# EAGLE library part PBX89 (library paper_tape)
PBX89 - 9 Photodiode Array
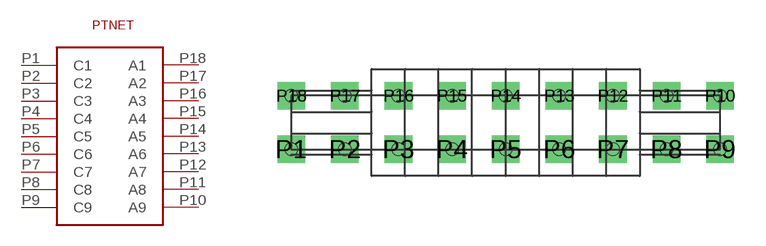
[diagram p0: symbol with the pads of DIP18N; footprint DIP18N]

Designator prefix PTNET

## PBX89  [DIP18N]
P1  C1
P2  C2
P3  C3
P4  C4
P5  C5
P6  C6
P7  C7
P8  C8
P9  C9
P10  A9
P11  A8
P12  A7
P13  A6
P14  A5
P15  A4
P16  A3
P17  A2
P18  A1

## Footprint DIP18N (pad centres in mm)
Narrow DIP18
drill 0.8 square: P1 -10.16,-1.27; P2 -7.62,-1.27; P3 -5.08,-1.27; P4 -2.54,-1.27; P5 0,-1.27; P6 2.54,-1.27; P7 5.08,-1.27; P8 7.62,-1.27; P9 10.16,-1.27; P10 10.16,1.27; P11 7.62,1.27; P12 5.08,1.27; P13 2.54,1.27; P14 0,1.27; P15 -2.54,1.27; P16 -5.08,1.27; P17 -7.62,1.27; P18 -10.16,1.27
hole 0.6 at 0,1.27
hole 0.6 at -2.54,1.27
hole 0.6 at -5.08,1.27
hole 0.6 at -7.62,1.27
hole 0.6 at -10.16,1.27
hole 0.6 at -10.16,-1.27
hole 0.6 at -7.62,-1.27
hole 0.6 at -5.08,-1.27
hole 0.6 at -2.54,-1.27
hole 0.6 at 0,-1.27
hole 0.6 at 2.54,-1.27
hole 0.6 at 2.54,1.27
hole 0.6 at 5.08,1.27
hole 0.6 at 7.62,1.27
hole 0.6 at 10.16,1.27
hole 0.6 at 10.16,-1.27
hole 0.6 at 7.62,-1.27
hole 0.6 at 5.08,-1.27